# Altium footprint library MCP4921T-E_SN.PcbLib: 2 footprints
Each footprint in its own frame and in the unit in brackets; x right, y up, seen from the top. Pads: shape width x height; smd on the part's side, far side on the other; paste and mask are expansions set on the pad; w line width, h text height; cw(c..) or ccw(c..) is an arc to the next point about the centre after c.
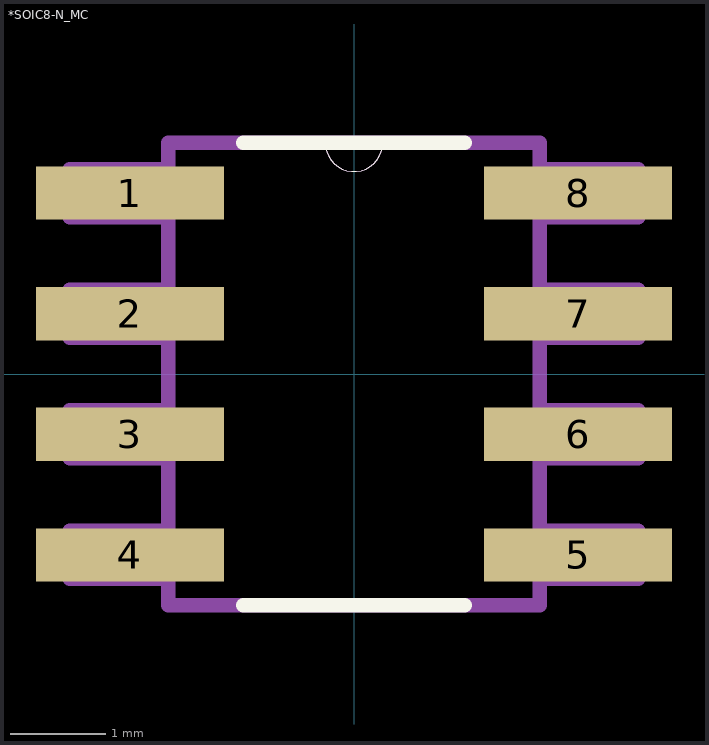
[diagram p0: the footprints below, top view; thin cyan lines are the x and y axes]

## *SOIC8-N_MC [mil]
pads (8):
  rect 78x22 smd: 1(-93,75) 2(-93,25) 3(-93,-25) 4(-93,-75) 5(93,-75) 6(93,-25) 7(93,25) 8(93,75)
Top Overlay:
  lines w0: -12,96 ccw(c0,96) 12,96
  lines w6: -46,-96 46,-96 ; -46,96 -12,96 12,96 46,96
Mechanical 4:
  lines w0: -12,96 ccw(c0,96) 12,96 cw(c0,96) -12,96
  lines w6: -118,-85 -118,-65 ; -118,-85 -77,-85 ; -118,-85 -118,-65 ; -118,-85 -77,-85 ; -118,-65 -77,-65 ; -118,-65 -77,-65 ; -118,-35 -118,-15 ; -118,-35 -77,-35 ; -118,-35 -118,-15 ; -118,-35 -77,-35 ; -118,-15 -77,-15 ; -118,-15 -77,-15 ; -118,15 -118,35 ; -118,15 -77,15 ; -118,15 -118,35 ; -118,15 -77,15 ; -118,35 -77,35 ; -118,35 -77,35 ; -118,65 -118,85 ; -118,65 -77,65 ; -118,65 -118,85 ; -118,65 -77,65 ; -118,85 -77,85 ; -118,85 -77,85 ; -77,-96 77,-96 ; -77,-96 -77,96 ; -77,-96 77,-96 ; -77,-96 -77,96 ; -77,-85 -77,-65 ; -77,-85 -77,-65 ; -77,-35 -77,-15 ; -77,-35 -77,-15 ; -77,15 -77,35 ; -77,15 -77,35 ; -77,65 -77,85 ; -77,65 -77,85 ; -77,96 -12,96 ; -77,96 -12,96 ; -12,96 12,96 ; -12,96 12,96 ; 12,96 77,96 ; 12,96 77,96 ; 77,-96 77,96 ; 77,-96 77,96 ; 77,-85 77,-65 ; 77,-85 118,-85 ; 77,-85 77,-65 ; 77,-85 118,-85 ; 77,-65 118,-65 ; 77,-65 118,-65 ; 77,-35 77,-15 ; 77,-35 118,-35 ; 77,-35 77,-15 ; 77,-35 118,-35 ; 77,-15 118,-15 ; 77,-15 118,-15 ; 77,15 77,35 ; 77,15 118,15 ; 77,15 77,35 ; 77,15 118,15 ; 77,35 118,35 ; 77,35 118,35 ; 77,65 77,85 ; 77,65 118,65 ; 77,65 77,85 ; 77,65 118,65 ; 77,85 118,85 ; 77,85 118,85 ; 118,-85 118,-65 ; 118,-85 118,-65 ; 118,-35 118,-15 ; 118,-35 118,-15 ; 118,15 118,35 ; 118,15 118,35 ; 118,65 118,85 ; 118,65 118,85

## PCBComponent_1 [mil]